# Altium schematic symbol library Schlib.SchLib: 33 symbols (part 3 of 3)
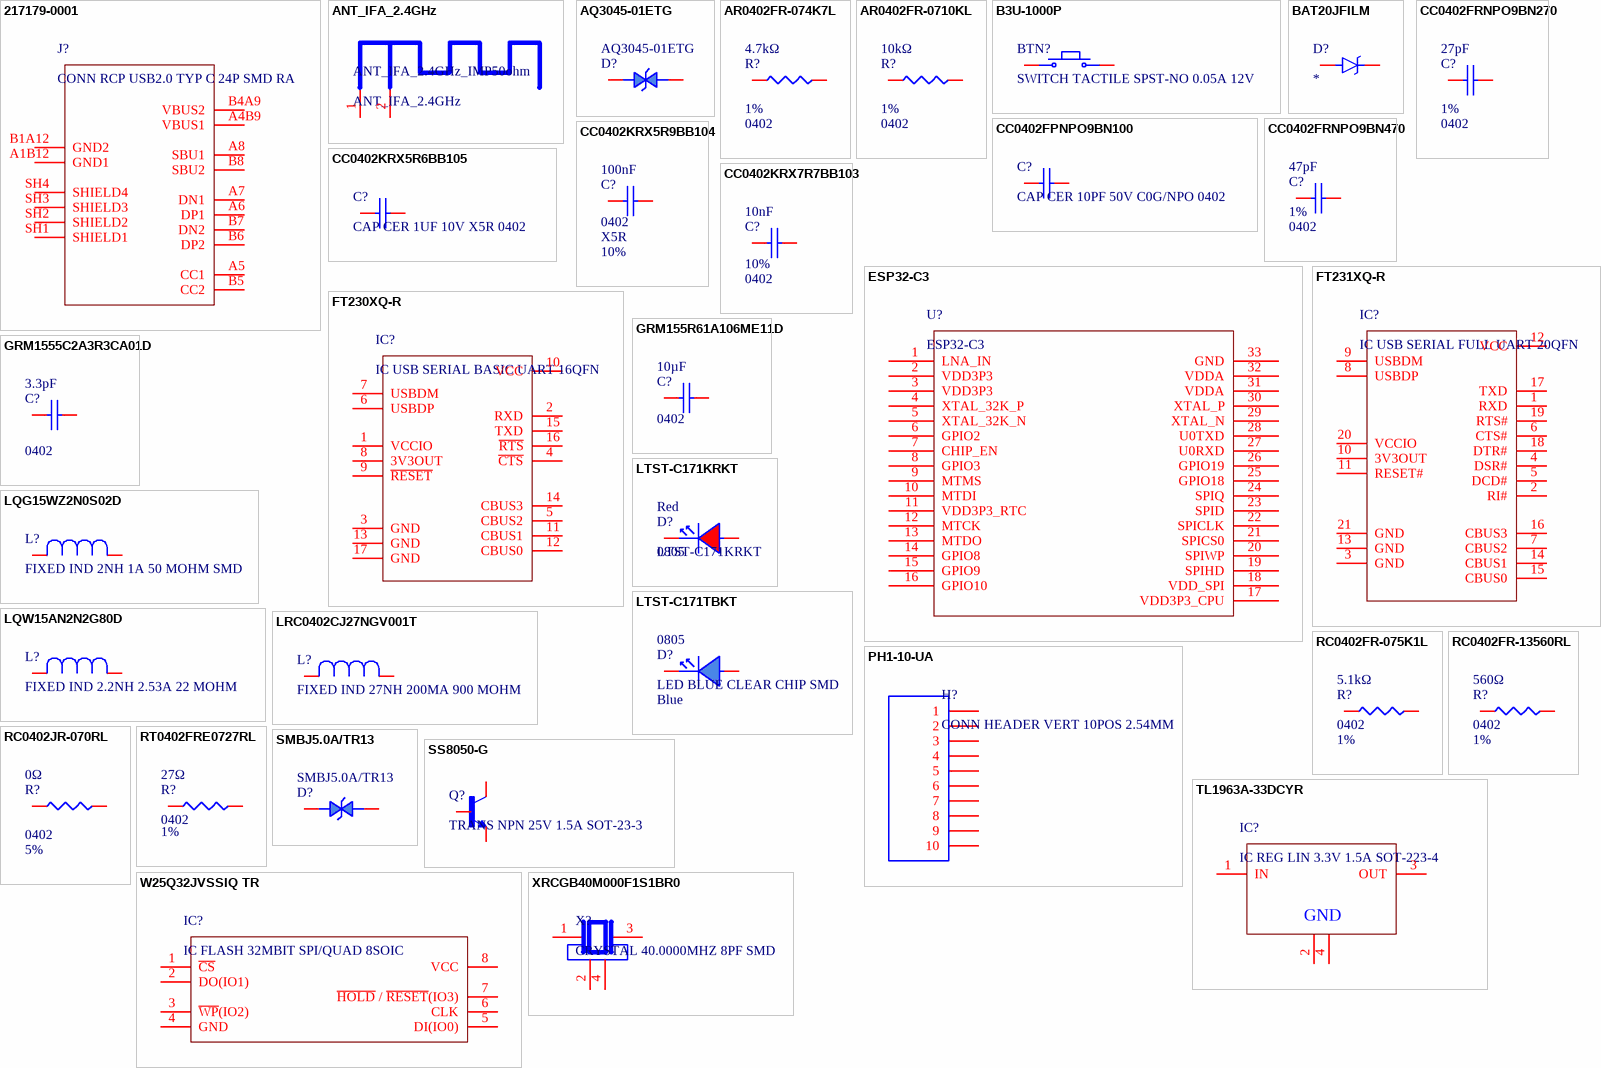
[diagram p2: symbols 217179-0001 to XRCGB40M000F1S1BR0]

## SMBJ5.0A/TR13
designator D?, comment Manufacturer Part Number: SMBJ5.0A/TR13  (hidden comment: TVS DIODE 5VWM 9.2VC DO214AA)
TVS DIODE 5VWM 9.2VC DO214AA / 9.2V Clamp 65.3A Ipp Tvs Diode Surface Mount DO-214AA (SMB); Manufacturer: Yageo Group; Breakdown Voltage: 6.7V; Max Breakdown Voltage: 7V; Max Power Dissipation: 5W; Min Breakdown Voltage: 6.4V; Number of Elements: 1; Peak Pulse Power: 600W; Polarity: Unidirectional; Reverse Standoff Voltage: 5V; Supplier: DigiKey; Supplier Part Number: 13-SMBJ5.0A/TR13CT-ND; RoHS: Compliant; Category: TVS Diodes; Stock: 4402; Pricing: 1=0,41, 10=0,283, 100=0,148, 500=0,12152, 1000=0,09473 (USD); Clamping Voltage: 9.2V; Lifecycle Status: Production; Max Operating Temperature: 150°C; Min Operating Temperature: -65°C; Number of Terminals: 2; REACH SVHC: No; ComponentLink1URL: https://datasheet.octopart.com:443/SMBJ5.0A-TR13-Yageo-datasheet-181541642.pdf?src-supplier=Future+Electronics; ComponentLink1Description: https://datasheet.octopart.com:443/SMBJ5.0A-TR13-Yageo-datasheet-181541642.pdf?src-supplier=Future+Electronics; ComponentLink2URL: https://datasheet.octopart.com:443/SMBJ5.0A-TR13-Yageo-Group-datasheet-160738968.pdf?src-supplier=Future+Electronics; ComponentLink2Description: https://datasheet.octopart.com:443/SMBJ5.0A-TR13-Yageo-Group-datasheet-160738968.pdf?src-supplier=Future+Electronics; ComponentLink3URL: https://datasheet.octopart.com:443/SMBJ5.0A-TR13-Yageo-datasheet-168834528.pdf?src-supplier=Newark; ComponentLink3Description: https://datasheet.octopart.com:443/SMBJ5.0A-TR13-Yageo-datasheet-168834528.pdf?src-supplier=Newark; ComponentLink4URL: http://sigma.octopart.com:80/conflict_mineral_statement/Yageo-company-3.pdf?src-supplier=Compliance+Statements; ComponentLink4Description: http://sigma.octopart.com:80/conflict_mineral_statement/Yageo-company-3.pdf?src-supplier=Compliance+Statements; ComponentLink5URL: http://sigma.octopart.com:80/rohs_statement/Yageo-company-2.pdf?src-supplier=Compliance+Statements; ComponentLink5Description: http://sigma.octopart.com:80/rohs_statement/Yageo-company-2.pdf?src-supplier=Compliance+Statements; LCSC Part: C2926825
footprint SMB_STM-L
pins: 1, 2

## SS8050-G
designator Q?, comment TRANS NPN 25V 1.5A SOT-23-3
TRANS NPN 25V 1.5A SOT23-3 / Bipolar (BJT) Transistor NPN 25 V 1.5 A 100MHz 300 mW Surface Mount SOT-23-3; Manufacturer: Comchip; Manufacturer Part Number: SS8050-G; Collector Base Voltage (VCBO): 40V; Collector Emitter Saturation Voltage: 500mV; Emitter Base Voltage (VEBO): 5V; hFE Min: 40; Max Junction Temperature (Tj): 150°C; Max Power Dissipation: 300mW; Number of Elements: 1; Supplier: DigiKey; Supplier Part Number: 641-1790-1-ND; RoHS: Compliant; Category: BJTs; Stock: 85486; Pricing: 1=0,24, 10=0,148, 100=0,0921, 500=0,06754, 1000=0,05958 (USD); Case/Package: TO-236-3; Collector Emitter Breakdown Voltage: 25V; Collector Emitter Voltage (VCEO): 25V; Height: 1.15mm; Lifecycle Status: Production; Max Breakdown Voltage: 25V; Max Collector Current: 1.5A; Max Operating Temperature: 150°C; Mounting Technology: Surface Mount; Number of Terminals: 3; Power Dissipation: 300mW; REACH SVHC: Yes; Schedule B: 8541100070|8541100070|8541100070|8541100070|8541100070; Transition Frequency: 100MHz; ComponentLink1URL: https://datasheet.octopart.com:443/SS8050-G-Comchip-datasheet-180131983.pdf?src-supplier=IHS; ComponentLink1Description: https://datasheet.octopart.com:443/SS8050-G-Comchip-datasheet-180131983.pdf?src-supplier=IHS; ComponentLink2URL: https://datasheet.octopart.com:443/SS8050-G-Comchip-datasheet-155422643.pdf?src-supplier=Upverter; ComponentLink2Description: https://datasheet.octopart.com:443/SS8050-G-Comchip-datasheet-155422643.pdf?src-supplier=Upverter; ComponentLink3URL: https://datasheet.octopart.com:443/SS8050-G-Comchip-datasheet-189767092.pdf?src-supplier=ODG+(Origin+Data+Global); ComponentLink3Description: https://datasheet.octopart.com:443/SS8050-G-Comchip-datasheet-189767092.pdf?src-supplier=ODG+(Origin+Data+Global); LCSC Part: C3199946
footprint TRANS_SS8050-G
pins: 1 B, 2 E, 3 C

## TL1963A-33DCYR
designator IC?, comment IC REG LIN 3.3V 1.5A SOT-223-4
1.5-A, 20-V, low-dropout voltage regulator with reverse current & reverse voltage protection; Manufacturer: Texas Instruments; Manufacturer Part Number: TL1963A-33DCYR; Manufacturer Lifecycle Status: ACTIVE; Accuracy: 3%; Dropout Voltage: 340mV; Input Bias Current: 1mA; Max Supply Voltage: 20V; Min Current Limit: 1.6A; Min Input Voltage: 2.1V; Number of Outputs: 1; Output Type: Fixed; Polarity: Positive; Supplier: DigiKey; Supplier Part Number: 296-24897-1-ND; RoHS: Compliant; Category: LDO Voltage Regulators; Stock: 4264; Pricing: 1=3,22, 10=2,414, 25=2,212, 100=1,9903, 250=1,88444, 500=1,85588 (USD); Case/Package: SOT-223; Contact Plating: Tin; Height: 1.8mm; Lead Free: Lead Free; Length: 6.5mm; Lifecycle Status: Production; Max Operating Temperature: 125°C; Max Output current: 1.5A; Max Output Voltage: 3.3V; Min Operating Temperature: -40°C; Min Output Voltage: 3.3V; Nominal Output Voltage: 3.3V; Pins: 4; Number of Regulators: 1; Output Current: 1.5A; Output Voltage: 3.3V; Quiescent Current: 1mA; Radiation Hardening: No; REACH SVHC: No; Schedule B: 8542390000, 8542390000|8542390000|8542390000|8542390000|8542390000; Thickness: 1.6mm; Width: 3.5mm; ComponentLink1URL: https://datasheet.octopart.com:443/TL1963A-33DCYR-Texas-Instruments-datasheet-36835243.pdf?src-supplier=Texas+Instruments; ComponentLink1Description: https://datasheet.octopart.com:443/TL1963A-33DCYR-Texas-Instruments-datasheet-36835243.pdf?src-supplier=Texas+Instruments; ComponentLink2URL: https://octopart.com:443/opatz8j6/c1?t=7938p2E3hGtuvHzh9uHcbOE5IwUpsRN-RdG1IUqPLYTTLry58Rz3JrkoHs6IlnodGiq_SyHcsYE8_Yj2nv1Vtm2McBApcjkJ3i2b_UV4sputvC-svH2_pBXtERMEpYdJjfjKiWY5noZvapJNMuyk2r72vCZUkuO_NLHyx28lqVAXlT-uTdOnRyi7f2n6IwJCiFrgBSQJBT-G-mBlbL0jlLDMNesjC18A_jYAqbmg2UmLweNv_teCPX79kEG8XqHKKE12xrxd8PYo_986hnTHEUdOYLheK1slTJPpHPsK5iSoTy6isz2ik9VnP4NT5e2z6ajpL_25YAojLgXHAMtCFDAE6j9rWpr-HtqPwK26aqEOm2qqYeeip_d_zo531nqux4KxS2U&src-supplier=Texas+Instruments; ComponentLink2Description: https://octopart.com:443/opatz8j6/c1?t=7938p2E3hGtuvHzh9uHcbOE5IwUpsRN-RdG1IUqPLYTTLry58Rz3JrkoHs6IlnodGiq_SyHcsYE8_Yj2nv1Vtm2McBApcjkJ3i2b_UV4sputvC-svH2_pBXtERMEpYdJjfjKiWY5noZvapJNMuyk2r72vCZUkuO_NLHyx28lqVAXlT-uTdOnRyi7f2n6IwJCiFrgBSQJBT-G-mBlbL0jlLDMNesjC18A_jYAqbmg2UmLweNv_teCPX79kEG8XqHKKE12xrxd8PYo_986hnTHEUdOYLheK1slTJPpHPsK5iSoTy6isz2ik9VnP4NT5e2z6ajpL_25YAojLgXHAMtCFDAE6j9rWpr-HtqPwK26aqEOm2qqYeeip_d_zo531nqux4KxS2U&src-supplier=Texas+Instruments; ComponentLink3URL: https://datasheet.octopart.com:443/TL1963A-33DCYR-Texas-Instruments-datasheet-10255270.pdf?src-supplier=Texas+Instruments; ComponentLink3Description: https://datasheet.octopart.com:443/TL1963A-33DCYR-Texas-Instruments-datasheet-10255270.pdf?src-supplier=Texas+Instruments; ComponentLink4URL: https://sigma.octopart.com:443/49253063/technical_drawing/Texas-Instruments-TL1963A-33DCYR.pdf?src-supplier=Texas+Instruments; ComponentLink4Description: https://sigma.octopart.com:443/49253063/technical_drawing/Texas-Instruments-TL1963A-33DCYR.pdf?src-supplier=Texas+Instruments; ComponentLink5URL: https://datasheet.octopart.com:443/TL1963A-33DCYR-Texas-Instruments-datasheet-159117591.pdf?src-supplier=Augswan; ComponentLink5Description: https://datasheet.octopart.com:443/TL1963A-33DCYR-Texas-Instruments-datasheet-159117591.pdf?src-supplier=Augswan; ComponentLink6URL: https://datasheet.octopart.com:443/TL1963A-33DCYR-Texas-Instruments-datasheet-21820479.pdf?src-supplier=Newark; ComponentLink6Description: https://datasheet.octopart.com:443/TL1963A-33DCYR-Texas-Instruments-datasheet-21820479.pdf?src-supplier=Newark; ComponentLink7URL: https://datasheet.octopart.com:443/TL1963A-33DCYR-Texas-Instruments-datasheet-16079880.pdf?src-supplier=Farnell; ComponentLink7Description: https://datasheet.octopart.com:443/TL1963A-33DCYR-Texas-Instruments-datasheet-16079880.pdf?src-supplier=Farnell; ComponentLink8URL: https://datasheet.octopart.com:443/TL1963A-33DCYR-Texas-Instruments-datasheet-14171511.pdf?src-supplier=iiiC; ComponentLink8Description: https://datasheet.octopart.com:443/TL1963A-33DCYR-Texas-Instruments-datasheet-14171511.pdf?src-supplier=iiiC; ComponentLink9URL: http://sigma.octopart.com:80/reach_statement/Texas-Instruments-company-64.pdf?src-supplier=Compliance+Statements; ComponentLink9Description: http://sigma.octopart.com:80/reach_statement/Texas-Instruments-company-64.pdf?src-supplier=Compliance+Statements; ComponentLink10URL: http://sigma.octopart.com:80/conflict_mineral_statement/Texas-Instruments-company-63.pdf?src-supplier=Compliance+Statements; ComponentLink10Description: http://sigma.octopart.com:80/conflict_mineral_statement/Texas-Instruments-company-63.pdf?src-supplier=Compliance+Statements; LCSC Part: C181262
footprint DCY4_TEX-L
pins: 1 IN, 2 GND, 3 OUT, 4 GND

## W25Q32JVSSIQ TR
designator IC?, comment IC FLASH 32MBIT SPI/QUAD 8SOIC
NOR Flash Serial (SPI, Dual SPI, Quad SPI) 3V/3.3V 32M-bit 4M x 8 6ns 8-Pin SOIC T/R; Manufacturer: Winbond; Manufacturer Part Number: W25Q32JVSSIQ TR; Frequency: 104MHz; Interface: SPI, Serial; Memory Format: FLASH, NOR; Supplier: DigiKey; Supplier Part Number: 256-W25Q32JVSSIQTRCT-ND; RoHS: Compliant; Category: Flash; Pricing: 1=1,02, 10=0,961, 25=0,9348, 50=0,9148, 100=0,8944, 250=0,86748, 500=0,84706, 1000=0,82672, 2000=0,6452, 4000=0,62918, 6000=0,61991, 10000=0,60834, 14000=0,60081 (USD); Case/Package: SOIC; Max Operating Temperature: 85°C; Min Operating Temperature: -40°C; Schedule B: 8542320070, 8542320070|8542320070|8542320070|8542320070|8542320070|8542320070|8542320070|8542320070|8542320070|8542320070|8542320070|8542320070|8542320070|8542320070|8542320070|8542320070|8542320070|8542320070|8542320070|8542320070|8542320070|8542320070|8542320070|85; ComponentLink1URL: https://datasheet.octopart.com:443/W25Q32JVSSIQ-TR-Winbond-datasheet-113071625.pdf?src-supplier=ODG+(Origin+Data+Global); ComponentLink1Description: https://datasheet.octopart.com:443/W25Q32JVSSIQ-TR-Winbond-datasheet-113071625.pdf?src-supplier=ODG+(Origin+Data+Global); LCSC Part: C179173
footprint SOIC-8_5P28X5P28_WIN-L
pins: 1 ~{CS}, 2 DO(IO1), 3 ~{WP}(IO2), 4 GND (power), 5 DI(IO0), 6 CLK, 7 ~{HOLD} / ~{RESET}(IO3), 8 VCC (power)

## XRCGB40M000F1S1BR0
designator X?, comment CRYSTAL 40.0000MHZ 8PF SMD
Crystal 40MHz ±10ppm (Tol) ±10ppm (Stability) 8pF 50Ohm 4-Pin CSMD T/R; Manufacturer: Murata; Manufacturer Part Number: XRCGB40M000F1S1BR0; ESR (Equivalent Series Resistance): 50Ω; Frequency Tolerance: 0.001%; Supplier: DigiKey; Supplier Part Number: 490-XRCGB40M000F1S1BR0CT-ND; RoHS: Compliant; Category: Crystals; Stock: 1134; Pricing: 1=0,32, 10=0,275, 25=0,2596, 50=0,2488, 100=0,2386, 250=0,22564, 500=0,21632, 1000=0,20736 (USD); Export Control Classification Number (ECCN) Code: EAR99; Frequency: 40MHz; Frequency Stability: 10ppm; Height: 700µm; Harmonized Tariff Schedule (HTS) Code: 8541.60.00.60; Introduction Date: 2022-06-14; Lifecycle Status: Production; Load Capacitance: 8pF; Max Operating Temperature: 85°C; Min Operating Temperature: -30°C; Mounting Technology: Surface Mount; REACH SVHC: Yes; Schedule B: 8541600080, 8541600080|8541600080, 8541600080|8541600080|8541600080, 8541600080|8541600080|8541600080|8541600080; ESR: 50Ω; Tolerance: 0.001%; ComponentLink1URL: https://datasheet.octopart.com:443/XRCGB40M000F1S1BR0-Murata-datasheet-180814757.pdf?src-supplier=IHS; ComponentLink1Description: https://datasheet.octopart.com:443/XRCGB40M000F1S1BR0-Murata-datasheet-180814757.pdf?src-supplier=IHS; ComponentLink2URL: https://datasheet.octopart.com:443/XRCGB40M000F1S1BR0-Murata-datasheet-141295020.pdf?src-supplier=Ciiva; ComponentLink2Description: https://datasheet.octopart.com:443/XRCGB40M000F1S1BR0-Murata-datasheet-141295020.pdf?src-supplier=Ciiva; ComponentLink3URL: http://sigma.octopart.com:80/reach_statement/Murata-company-16.pdf?src-supplier=Compliance+Statements; ComponentLink3Description: http://sigma.octopart.com:80/reach_statement/Murata-company-16.pdf?src-supplier=Compliance+Statements; LCSC Part: C1870451
footprint OSC_XRCGB40M000F1S1BR0
pins: 1, 2, 3, 4